# EAGLE library part MAX3232_BOARD (library freskin)
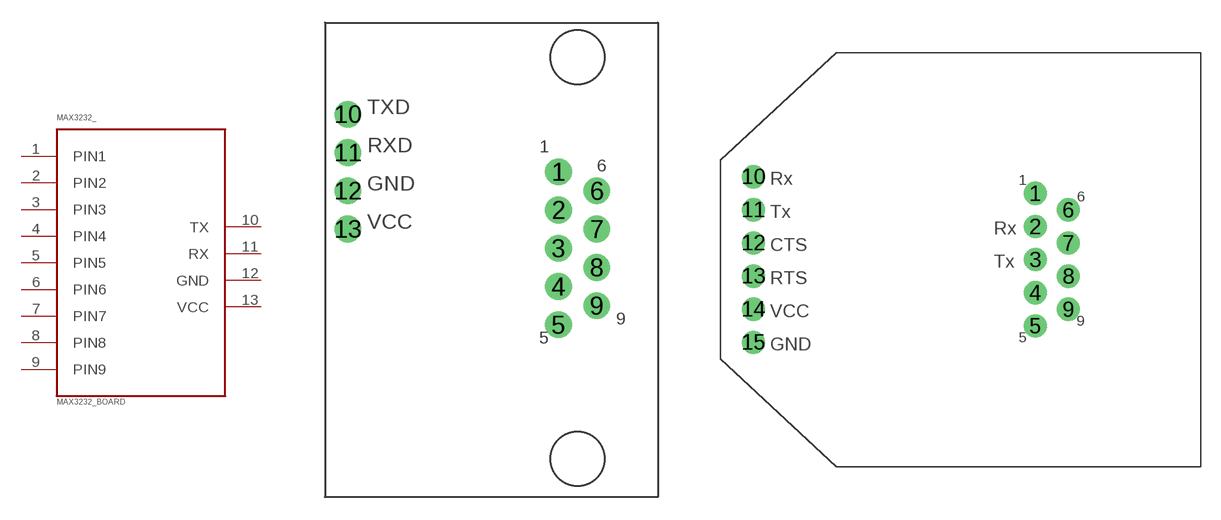
[diagram p2: symbol with the pads of MAX3232_BOARD_RECT; footprints MAX3232_BOARD_RECT, MAX3232_BOARD_PENT]

Designator prefix MAX3232_

## MAX3232_BOARD_RECT  [MAX3232_BOARD_RECT]
1  PIN1
2  PIN2
3  PIN3
4  PIN4
5  PIN5
6  PIN6
7  PIN7
8  PIN8
9  PIN9
10  TX
11  RX
12  GND
13  VCC

## MAX3232_BOARD_PENT  [MAX3232_BOARD_PENT]
1  PIN1
2  PIN2
3  PIN3
4  PIN4
5  PIN5
6  PIN6
7  PIN7
8  PIN8
9  PIN9
10  RX
11  TX
14  VCC
15  GND

## Footprint MAX3232_BOARD_RECT (pad centres in mm)
drill 1 pad 1.778: 1 3.81,5.08; 2 3.81,2.54; 3 3.81,0; 4 3.81,-2.54; 5 3.81,-5.08; 6 6.35,3.81; 7 6.35,1.27; 8 6.35,-1.27; 9 6.35,-3.81; 10 -10.16,8.89; 11 -10.16,6.35; 12 -10.16,3.81; 13 -10.16,1.27

## Footprint MAX3232_BOARD_PENT (pad centres in mm)
drill 1 pad 1.778: 1 3.81,3.175; 2 3.81,0.635; 3 3.81,-1.905; 4 3.81,-4.445; 5 3.81,-6.985; 6 6.35,1.905; 7 6.35,-0.635; 8 6.35,-3.175; 9 6.35,-5.715; 10 -17.78,4.445; 11 -17.78,1.905; 12 -17.78,-0.635; 13 -17.78,-3.175; 14 -17.78,-5.715; 15 -17.78,-8.255